# EAGLE library part SW_DPDT_NKK_G2AV (library wheat)
SWITCH, SUBMINI TOGGLE, DPDT, RAPC NKK G2AV
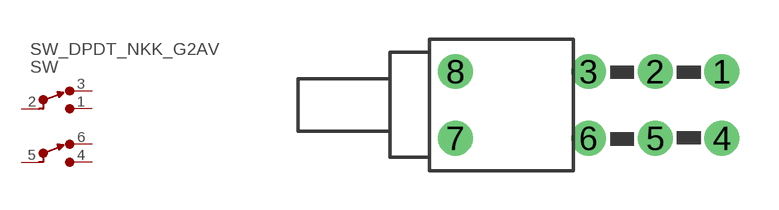
[diagram p72: symbol with the pads of SW_DPDT_NKK_G22AV; footprint SW_DPDT_NKK_G22AV]

Designator prefix SW

## SW_DPDT_NKK_G2AV  [SW_DPDT_NKK_G22AV]
1  NO1  pas
2  C1  pas
3  NC1  pas
4  NO2  pas
5  C2  pas
6  NC2  pas

## Footprint SW_DPDT_NKK_G22AV (pad centres in mm)
SWITCH, NKK G2AV
drill 0.813: 1 11.16,1.27; 2 8.62,1.27; 3 6.08,1.27; 4 11.16,-1.27; 5 8.62,-1.27; 6 6.08,-1.27; 7 1,-1.27; 8 1,1.27